# EAGLE library part ADS7952 (library satellite)
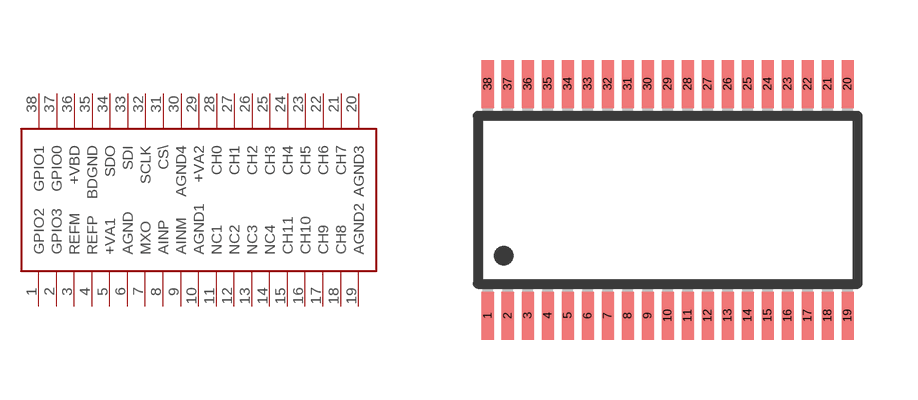
[diagram p15: symbol with the pads of TSSOP38; footprint TSSOP38]

Designator prefix -

## ADS7952  [TSSOP38]
1  GPIO2
2  GPIO3
3  REFM
4  REFP
5  +VA1
6  AGND
7  MXO
8  AINP
9  AINM
10  AGND1
11  NC1
12  NC2
13  NC3
14  NC4
15  CH11
16  CH10
17  CH9
18  CH8
19  AGND2
20  AGND3
21  CH7
22  CH6
23  CH5
24  CH4
25  CH3
26  CH2
27  CH1
28  CH0
29  +VA2
30  AGND4
31  CS\
32  SCLK
33  SDI
34  SDO
35  BDGND
36  +VBD
37  GPIO0
38  GPIO1

## Footprint TSSOP38 (pad centres in mm)
38-Lead Thin Shrink Small Outline Package [TSSOP] RU-38 Source: http://www.analog.com/UploadedFiles/Packages/415413609854197792024125RU38.pdf COMPLIANT TO JEDEC STANDARDS MS-153BD-1
smd 0.3 x 1.2: 1 -4.5,-2.9; 2 -4,-2.9; 3 -3.5,-2.9; 4 -3,-2.9; 5 -2.5,-2.9; 6 -2,-2.9; 7 -1.5,-2.9; 8 -1,-2.9; 9 -0.5,-2.9; 10 0,-2.9; 11 0.5,-2.9; 12 1,-2.9; 13 1.5,-2.9; 14 2,-2.9; 15 2.5,-2.9; 16 3,-2.9; 17 3.5,-2.9; 18 4,-2.9; 19 4.5,-2.9; 20 4.5,2.9; 21 4,2.9; 22 3.5,2.9; 23 3,2.9; 24 2.5,2.9; 25 2,2.9; 26 1.5,2.9; 27 1,2.9; 28 0.5,2.9; 29 0,2.9; 30 -0.5,2.9; 31 -1,2.9; 32 -1.5,2.9; 33 -2,2.9; 34 -2.5,2.9; 35 -3,2.9; 36 -3.5,2.9; 37 -4,2.9; 38 -4.5,2.9